# EAGLE library part L200-TO3 (library v-reg)
VOLTAGE REGULATOR
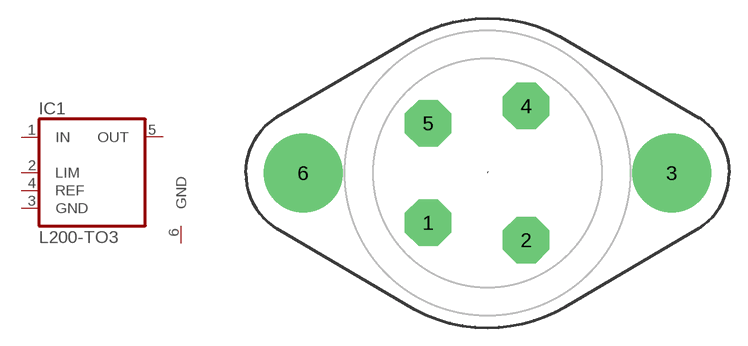
[diagram p0: symbol with the pads of L200TO3; footprint L200TO3]

Designator prefix IC; gates 1=L200 G$1=GND

## L200-TO3  [L200TO3]
1  1:IN  in
2  1:LIM  in
3  1:GND  pas
4  1:REF  in
5  1:OUT  pas
6  G$1:GND  pwr

## Footprint L200TO3 (pad centres in mm)
VOLTAGE REGULATOR L200.pdf from www.st.com
drill 1.194 pad 3.81 octagon: 1 -4.864,-4.082; 2 3.175,-5.499; 4 3.175,5.499; 5 -4.864,4.082
drill 4.115 pad 6.477: 3 15.113,0; 6 -15.113,0